# EAGLE library part TEN60-S24-P6-RA (library BackplaneConnector)
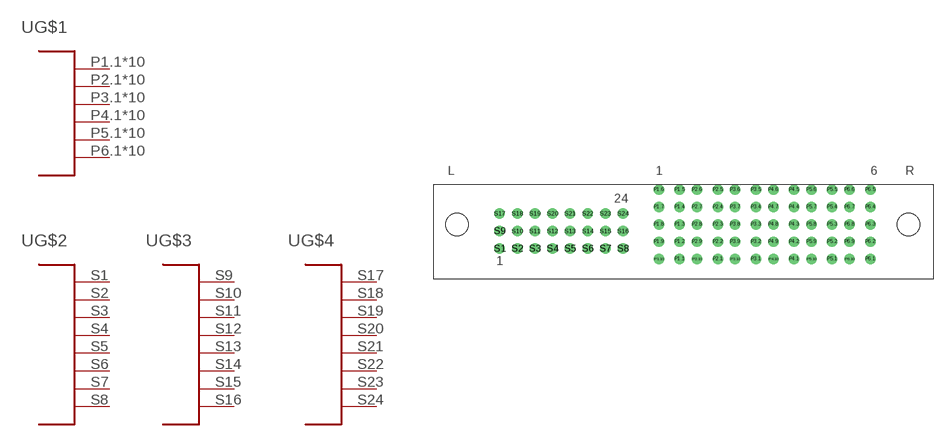
[diagram p0: symbol with the pads of TEN60-S24-P6-RA; footprint TEN60-S24-P6-RA]

Designator prefix -; gates G$1=TEN60-6-PWR G$2=TEN60-8-SIG G$3=TEN60-8-SIG G$4=TEN60-8-SIG

## TEN60-S24-P6-RA  [TEN60-S24-P6-RA]
P1.1  G$1:P$1
P1.2  G$1:P$1
P1.3  G$1:P$1
P1.4  G$1:P$1
P1.5  G$1:P$1
P1.6  G$1:P$1
P1.7  G$1:P$1
P1.8  G$1:P$1
P1.9  G$1:P$1
P1.10  G$1:P$1
P2.1  G$1:P$2
P2.2  G$1:P$2
P2.3  G$1:P$2
P2.4  G$1:P$2
P2.5  G$1:P$2
P2.6  G$1:P$2
P2.7  G$1:P$2
P2.8  G$1:P$2
P2.9  G$1:P$2
P2.10  G$1:P$2
P3.1  G$1:P$3
P3.2  G$1:P$3
P3.3  G$1:P$3
P3.4  G$1:P$3
P3.5  G$1:P$3
P3.6  G$1:P$3
P3.7  G$1:P$3
P3.8  G$1:P$3
P3.9  G$1:P$3
P3.10  G$1:P$3
P4.1  G$1:P$4
P4.2  G$1:P$4
P4.3  G$1:P$4
P4.4  G$1:P$4
P4.5  G$1:P$4
P4.6  G$1:P$4
P4.7  G$1:P$4
P4.8  G$1:P$4
P4.9  G$1:P$4
P4.10  G$1:P$4
P5.1  G$1:P$5
P5.2  G$1:P$5
P5.3  G$1:P$5
P5.4  G$1:P$5
P5.5  G$1:P$5
P5.6  G$1:P$5
P5.7  G$1:P$5
P5.8  G$1:P$5
P5.9  G$1:P$5
P5.10  G$1:P$5
P6.1  G$1:P$6
P6.2  G$1:P$6
P6.3  G$1:P$6
P6.4  G$1:P$6
P6.5  G$1:P$6
P6.6  G$1:P$6
P6.7  G$1:P$6
P6.8  G$1:P$6
P6.9  G$1:P$6
P6.10  G$1:P$6
S1  G$2:P$1
S2  G$2:P$2
S3  G$2:P$3
S4  G$2:P$4
S5  G$2:P$5
S6  G$2:P$6
S7  G$2:P$7
S8  G$2:P$8
S9  G$3:P$1
S10  G$3:P$2
S11  G$3:P$3
S12  G$3:P$4
S13  G$3:P$5
S14  G$3:P$6
S15  G$3:P$7
S16  G$3:P$8
S17  G$4:P$1
S18  G$4:P$2
S19  G$4:P$3
S20  G$4:P$4
S21  G$4:P$5
S22  G$4:P$6
S23  G$4:P$7
S24  G$4:P$8

## Footprint TEN60-S24-P6-RA (pad centres in mm)
drill 1: P1.1 35.45,2.9; P1.2 35.45,5.4; P1.3 35.45,7.9; P1.4 35.45,10.4; P1.5 35.45,12.9; P1.6 32.45,12.9; P1.7 32.45,10.4; P1.8 32.45,7.9; P1.9 32.45,5.4; P1.10 32.45,2.9; P2.1 40.95,2.9; P2.2 40.95,5.4; P2.3 40.95,7.9; P2.4 40.95,10.4; P2.5 40.95,12.9; P2.6 37.95,12.9; P2.7 37.95,10.4; P2.8 37.95,7.9; P2.9 37.95,5.4; P2.10 37.95,2.9; P3.1 46.45,2.9; P3.2 46.45,5.4; P3.3 46.45,7.9; P3.4 46.45,10.4; P3.5 46.45,12.9; P3.6 43.45,12.9; P3.7 43.45,10.4; P3.8 43.45,7.9; P3.9 43.45,5.4; P3.10 43.45,2.9; P4.1 51.95,2.9; P4.2 51.95,5.4; P4.3 51.95,7.9; P4.4 51.95,10.4; P4.5 51.95,12.9; P4.6 48.95,12.9; P4.7 48.95,10.4; P4.8 48.95,7.9; P4.9 48.95,5.4; P4.10 48.95,2.9; P5.1 57.45,2.9; P5.2 57.45,5.4; P5.3 57.45,7.9; P5.4 57.45,10.4; P5.5 57.45,12.9; P5.6 54.45,12.9; P5.7 54.45,10.4; P5.8 54.45,7.9; P5.9 54.45,5.4; P5.10 54.45,2.9; P6.1 62.95,2.9; P6.2 62.95,5.4; P6.3 62.95,7.9; P6.4 62.95,10.4; P6.5 62.95,12.9; P6.6 59.95,12.9; P6.7 59.95,10.4; P6.8 59.95,7.9; P6.9 59.95,5.4; P6.10 59.95,2.9; S1 9.49,4.4; S2 12.03,4.4; S3 14.57,4.4; S4 17.11,4.4; S5 19.65,4.4; S6 22.19,4.4; S7 24.73,4.4; S8 27.27,4.4; S9 9.49,6.94; S10 12.03,6.94; S11 14.57,6.94; S12 17.11,6.94; S13 19.65,6.94; S14 22.19,6.94; S15 24.73,6.94; S16 27.27,6.94; S17 9.49,9.48; S18 12.03,9.48; S19 14.57,9.48; S20 17.11,9.48; S21 19.65,9.48; S22 22.19,9.48; S23 24.73,9.48; S24 27.27,9.48
hole 3.2 at 3.32,7.9
hole 3.2 at 68.45,7.9